# EAGLE library part XC95144XL-7TQ144C (library XC95144XL-7TQ144C)
CPLD - Complex Programmable Logic Devices 3.3V 144-mc CPLD Source: Datasheet <http://www.xilinx.com/support/documentation/data_sheets/ds056.pdf>
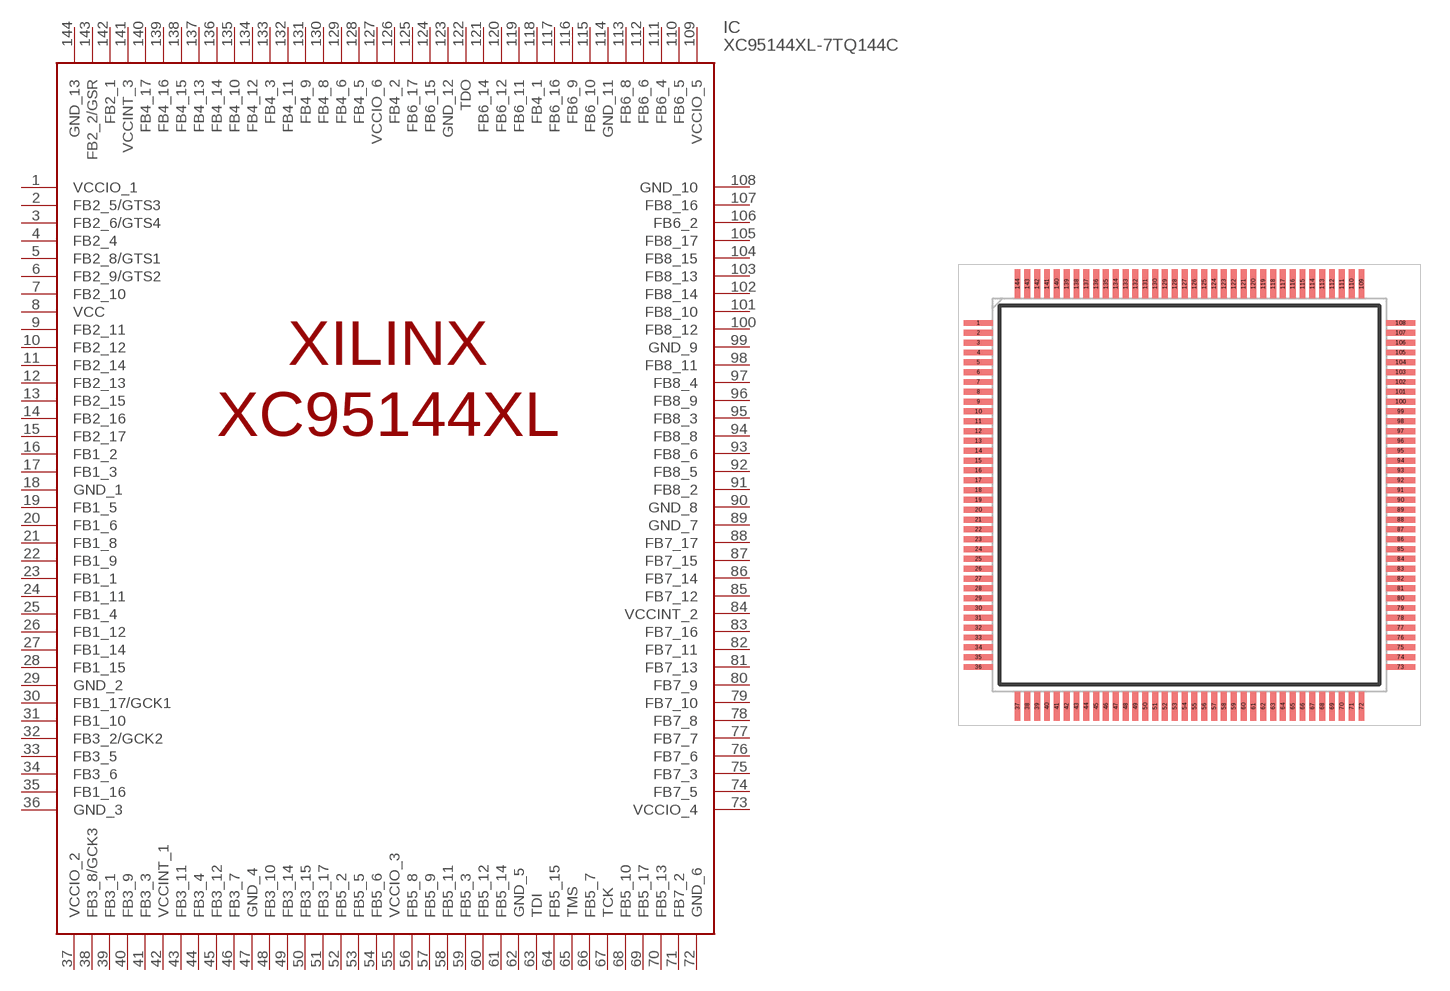
[diagram p0: symbol with the pads of QFP50P2200X2200X160-144N; footprint QFP50P2200X2200X160-144N]

Designator prefix IC

## XC95144XL-7TQ144C (ARROW_PART_NUMBER: XC95144XL-7TQ144C; DESCRIPTION: CPLD - Complex Programmable Logic Devices 3.3V 144-mc CPLD; HEIGHT: 1.6mm; MANUFACTURER_NAME: XILINX; MANUFACTURER_PART_NUMBER: XC95144XL-7TQ144C)  [QFP50P2200X2200X160-144N]
1  VCCIO_1  pwr
2  FB2_5/GTS3
3  FB2_6/GTS4
4  FB2_4
5  FB2_8/GTS1
6  FB2_9/GTS2
7  FB2_10
8  VCC  pwr
9  FB2_11
10  FB2_12
11  FB2_14
12  FB2_13
13  FB2_15
14  FB2_16
15  FB2_17
16  FB1_2
17  FB1_3
18  GND_1  pwr
19  FB1_5
20  FB1_6
21  FB1_8
22  FB1_9
23  FB1_1
24  FB1_11
25  FB1_4
26  FB1_12
27  FB1_14
28  FB1_15
29  GND_2  pwr
30  FB1_17/GCK1
31  FB1_10
32  FB3_2/GCK2
33  FB3_5
34  FB3_6
35  FB1_16
36  GND_3  pwr
37  VCCIO_2  pwr
38  FB3_8/GCK3
39  FB3_1
40  FB3_9
41  FB3_3
42  VCCINT_1  pwr
43  FB3_11
44  FB3_4
45  FB3_12
46  FB3_7
47  GND_4  pwr
48  FB3_10
49  FB3_14
50  FB3_15
51  FB3_17
52  FB5_2
53  FB5_5
54  FB5_6
55  VCCIO_3  pwr
56  FB5_8
57  FB5_9
58  FB5_11
59  FB5_3
60  FB5_12
61  FB5_14
62  GND_5  pwr
63  TDI
64  FB5_15
65  TMS
66  FB5_7
67  TCK
68  FB5_10
69  FB5_17
70  FB5_13
71  FB7_2
72  GND_6  pwr
73  VCCIO_4  pwr
74  FB7_5
75  FB7_3
76  FB7_6
77  FB7_7
78  FB7_8
79  FB7_10
80  FB7_9
81  FB7_13
82  FB7_11
83  FB7_16
84  VCCINT_2  pwr
85  FB7_12
86  FB7_14
87  FB7_15
88  FB7_17
89  GND_7  pwr
90  GND_8  pwr
91  FB8_2
92  FB8_5
93  FB8_6
94  FB8_8
95  FB8_3
96  FB8_9
97  FB8_4
98  FB8_11
99  GND_9  pwr
100  FB8_12
101  FB8_10
102  FB8_14
103  FB8_13
104  FB8_15
105  FB8_17
106  FB6_2
107  FB8_16
108  GND_10  pwr
109  VCCIO_5
110  FB6_5
111  FB6_4
112  FB6_6
113  FB6_8
114  GND_11  pwr
115  FB6_10
116  FB6_9
117  FB6_16
118  FB4_1
119  FB6_11
120  FB6_12
121  FB6_14
122  TDO
123  GND_12  pwr
124  FB6_15
125  FB6_17
126  FB4_2
127  VCCIO_6  pwr
128  FB4_5
129  FB4_6
130  FB4_8
131  FB4_9
132  FB4_11
133  FB4_3
134  FB4_12
135  FB4_10
136  FB4_14
137  FB4_13
138  FB4_15
139  FB4_16
140  FB4_17
141  VCCINT_3  pwr
142  FB2_1
143  FB2_2/GSR
144  GND_13  pwr

## Footprint QFP50P2200X2200X160-144N (pad centres in mm)
TQFP144
smd 1.475 x 0.3: 1 -10.738,8.75; 2 -10.738,8.25; 3 -10.738,7.75; 4 -10.738,7.25; 5 -10.738,6.75; 6 -10.738,6.25; 7 -10.738,5.75; 8 -10.738,5.25; 9 -10.738,4.75; 10 -10.738,4.25; 11 -10.738,3.75; 12 -10.738,3.25; 13 -10.738,2.75; 14 -10.738,2.25; 15 -10.738,1.75; 16 -10.738,1.25; 17 -10.738,0.75; 18 -10.738,0.25; 19 -10.738,-0.25; 20 -10.738,-0.75; 21 -10.738,-1.25; 22 -10.738,-1.75; 23 -10.738,-2.25; 24 -10.738,-2.75; 25 -10.738,-3.25; 26 -10.738,-3.75; 27 -10.738,-4.25; 28 -10.738,-4.75; 29 -10.738,-5.25; 30 -10.738,-5.75; 31 -10.738,-6.25; 32 -10.738,-6.75; 33 -10.738,-7.25; 34 -10.738,-7.75; 35 -10.738,-8.25; 36 -10.738,-8.75; 73 10.738,-8.75; 74 10.738,-8.25; 75 10.738,-7.75; 76 10.738,-7.25; 77 10.738,-6.75; 78 10.738,-6.25; 79 10.738,-5.75; 80 10.738,-5.25; 81 10.738,-4.75; 82 10.738,-4.25; 83 10.738,-3.75; 84 10.738,-3.25; 85 10.738,-2.75; 86 10.738,-2.25; 87 10.738,-1.75; 88 10.738,-1.25; 89 10.738,-0.75; 90 10.738,-0.25; 91 10.738,0.25; 92 10.738,0.75; 93 10.738,1.25; 94 10.738,1.75; 95 10.738,2.25; 96 10.738,2.75; 97 10.738,3.25; 98 10.738,3.75; 99 10.738,4.25; 100 10.738,4.75; 101 10.738,5.25; 102 10.738,5.75; 103 10.738,6.25; 104 10.738,6.75; 105 10.738,7.25; 106 10.738,7.75; 107 10.738,8.25; 108 10.738,8.75
smd 0.3 x 1.475: 37 -8.75,-10.738; 38 -8.25,-10.738; 39 -7.75,-10.738; 40 -7.25,-10.738; 41 -6.75,-10.738; 42 -6.25,-10.738; 43 -5.75,-10.738; 44 -5.25,-10.738; 45 -4.75,-10.738; 46 -4.25,-10.738; 47 -3.75,-10.738; 48 -3.25,-10.738; 49 -2.75,-10.738; 50 -2.25,-10.738; 51 -1.75,-10.738; 52 -1.25,-10.738; 53 -0.75,-10.738; 54 -0.25,-10.738; 55 0.25,-10.738; 56 0.75,-10.738; 57 1.25,-10.738; 58 1.75,-10.738; 59 2.25,-10.738; 60 2.75,-10.738; 61 3.25,-10.738; 62 3.75,-10.738; 63 4.25,-10.738; 64 4.75,-10.738; 65 5.25,-10.738; 66 5.75,-10.738; 67 6.25,-10.738; 68 6.75,-10.738; 69 7.25,-10.738; 70 7.75,-10.738; 71 8.25,-10.738; 72 8.75,-10.738; 109 8.75,10.738; 110 8.25,10.738; 111 7.75,10.738; 112 7.25,10.738; 113 6.75,10.738; 114 6.25,10.738; 115 5.75,10.738; 116 5.25,10.738; 117 4.75,10.738; 118 4.25,10.738; 119 3.75,10.738; 120 3.25,10.738; 121 2.75,10.738; 122 2.25,10.738; 123 1.75,10.738; 124 1.25,10.738; 125 0.75,10.738; 126 0.25,10.738; 127 -0.25,10.738; 128 -0.75,10.738; 129 -1.25,10.738; 130 -1.75,10.738; 131 -2.25,10.738; 132 -2.75,10.738; 133 -3.25,10.738; 134 -3.75,10.738; 135 -4.25,10.738; 136 -4.75,10.738; 137 -5.25,10.738; 138 -5.75,10.738; 139 -6.25,10.738; 140 -6.75,10.738; 141 -7.25,10.738; 142 -7.75,10.738; 143 -8.25,10.738; 144 -8.75,10.738